# Altium footprint library PASSIVE_SMD.PCBLIB: 238 footprints (part 5 of 15)
Each footprint in its own frame and in the unit in brackets; x right, y up, seen from the top. Pads: shape width x height; smd on the part's side, far side on the other; paste and mask are expansions set on the pad; w line width, h text height; cw(c..) or ccw(c..) is an arc to the next point about the centre after c.
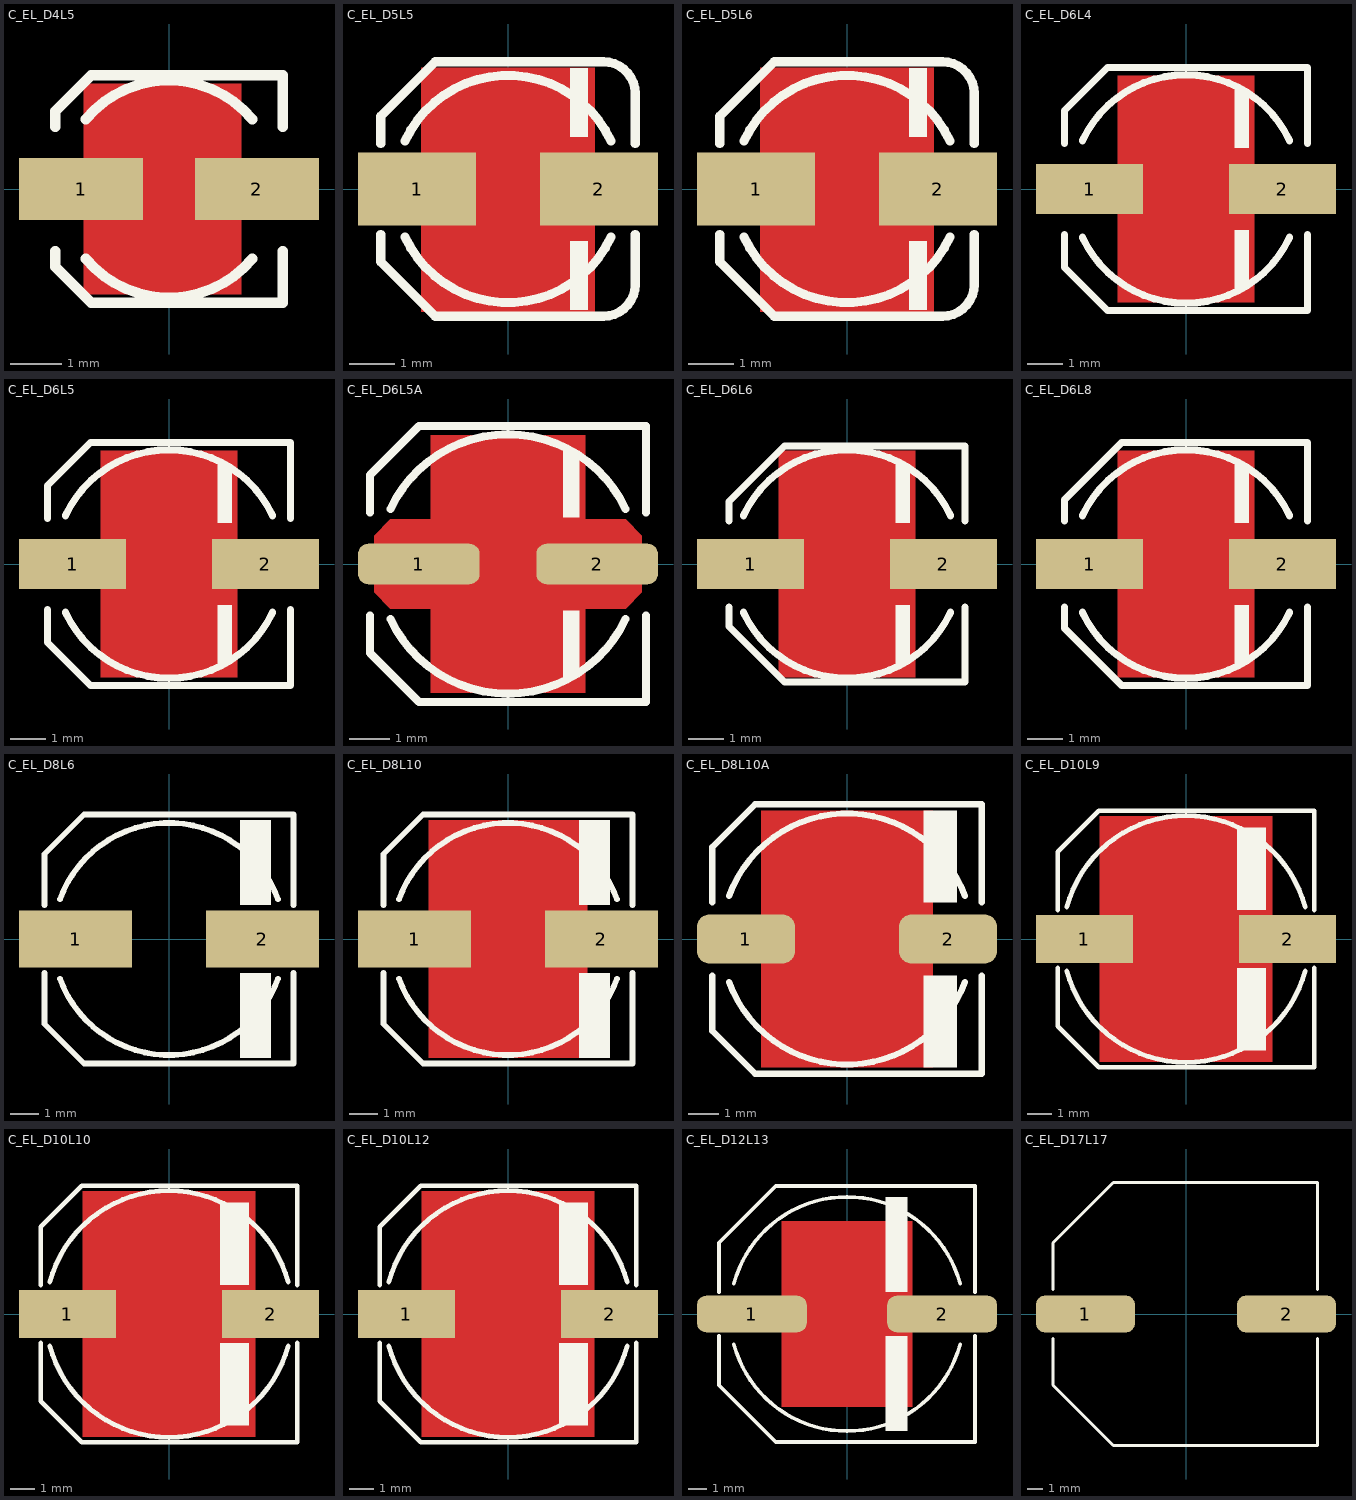
[diagram p4: the footprints below, top view; thin cyan lines are the x and y axes]

## C_EL_D4L5 [mm] "Electrolytic Cap, D: 4.3mm, Size B, 5.5mm Height"
height 5.5
pads (2):
  rect 2.4x1.2 smd paste-0.129: 1(-1.7,0) 2(1.7,0)
Top Layer:
  pour cut-out: 1.397,2.032 1.397,-2.032 -1.651,-2.032 -1.651,2.032
Top Overlay:
  lines w0.2: -2.2,-1.2 -2.2,-1.5 -1.5,-2.2 2.2,-2.2 2.2,-1.2 ; -2.2,1.2 -2.2,1.5 -1.5,2.2 2.2,2.2 2.2,1.2 ; -1.609,-1.35 ccw(c0,0) 1.609,-1.35 ; -1.609,1.35 cw(c0,0) 1.609,1.35
3D body "4x5.5x1.stp": height 5.5, standoff 0, extent -2.5,-2.15 2.5,2.15

## C_EL_D5L5 [mm] "Electrolytic Cap, D: 5.0mm, L: 5.4mm"
pads (2):
  rect 2.6x1.6 smd paste-0.161: 1(-2,0) 2(2,0)
Top Layer:
  pour cut-out: 1.905,2.667 1.905,-2.7 -1.905,-2.7 -1.905,2.667
Top Overlay:
  rectangle: 1.36,1.143 1.76,2.667
  rectangle: 1.36,-2.667 1.76,-1.143
  lines w0.2: -2.8,-1 -2.8,-1.6 -1.6,-2.8 2.1,-2.8 ccw(c2.1,-2.1) 2.8,-2.1 2.8,-1 ; -2.8,1 -2.8,1.6 -1.6,2.8 2.1,2.8 cw(c2.1,2.1) 2.8,2.1 2.8,1 ; -2.266,-1.057 ccw(c0,0) 2.266,-1.057 ; -2.266,1.057 cw(c0,0) 2.266,1.057
3D body "ELCO SMD 5.0x5.5mm 6uF8 50V size C.stp": height -0.4, standoff -5.95, extent -3,-2.648 3,2.648

## C_EL_D5L6 [mm] "Electrolytic Cap, D: 5.0mm, L: 5.8mm, Size C"
pads (2):
  rect 2.6x1.6 smd paste-0.161: 1(-2,0) 2(2,0)
Top Layer:
  pour cut-out: 1.905,2.667 1.905,-2.7 -1.905,-2.7 -1.905,2.667
Top Overlay:
  rectangle: 1.36,1.143 1.76,2.667
  rectangle: 1.36,-2.667 1.76,-1.143
  lines w0.2: -2.8,-1 -2.8,-1.6 -1.6,-2.8 2.1,-2.8 ccw(c2.1,-2.1) 2.8,-2.1 2.8,-1 ; -2.8,1 -2.8,1.6 -1.6,2.8 2.1,2.8 cw(c2.1,2.1) 2.8,2.1 2.8,1 ; -2.266,-1.057 ccw(c0,0) 2.266,-1.057 ; -2.266,1.057 cw(c0,0) 2.266,1.057
3D body "5x5.8x1.4.stp": height -0.4, standoff -6.2, extent -3,-2.65 3,2.65

## C_EL_D6L4 [mm] "Electrolytic Cap, D: 6.3mm L: 3.9mm, Size D"
height 4
pads (2):
  rect 3x1.4 smd paste-0.154: 1(-2.7,0) 2(2.7,0)
Top Layer:
  pour cut-out: 1.905,3.175 1.905,-3.175 -1.905,-3.175 -1.905,3.175
Top Overlay:
  rectangle: 1.36,1.143 1.76,2.8
  rectangle: 1.36,-2.8 1.76,-1.143
  lines w0.2: -3.4,-1.27 -3.4,-2.2 -2.2,-3.4 3.4,-3.4 3.4,-1.27 ; -3.4,1.27 -3.4,2.2 -2.2,3.4 3.4,3.4 3.4,1.27 ; -2.9,-1.352 ccw(c0,0) 2.9,-1.352 ; -2.9,1.352 cw(c0,0) 2.9,1.352
3D body "User Library-CAPSMD6_3x3_9.STEP": height 3.91, standoff 0, extent -3.586,-3.3 3.414,3.3

## C_EL_D6L5 [mm] "Electrolytic Cap, D: 6.3mm L: 5.4mm, Size D"
height 4
pads (2):
  rect 3x1.4 smd paste-0.154: 1(-2.7,0) 2(2.7,0)
Top Layer:
  pour cut-out: 1.905,3.175 1.905,-3.175 -1.905,-3.175 -1.905,3.175
Top Overlay:
  rectangle: 1.36,1.143 1.76,2.8
  rectangle: 1.36,-2.8 1.76,-1.143
  lines w0.2: -3.4,-1.27 -3.4,-2.2 -2.2,-3.4 3.4,-3.4 3.4,-1.27 ; -3.4,1.27 -3.4,2.2 -2.2,3.4 3.4,3.4 3.4,1.27 ; -2.9,-1.352 ccw(c0,0) 2.9,-1.352 ; -2.9,1.352 cw(c0,0) 2.9,1.352
3D body "User Library-ALU-D.STEP": height 5.4, standoff 0, extent -3.5,-3.3 3.5,3.3

## C_EL_D6L5A [mm] "Electrolytic Cap, D: 6.3mm L: 5.4mm, Size D"
height 4
pads (2):
  rrect50% 3x1 smd paste-0.121: 1(-2.2,0) 2(2.2,0)
Top Layer:
  region: -3.3,0.7 -3.3,-0.7 -2.9,-1.1 -1.3,-1.1 -1,-0.8 -1,0.7 -1.4,1.1 -2.9,1.1
  pour cut-out: 1.905,3.175 1.905,-3.175 -1.905,-3.175 -1.905,3.175
  region: 3.3,0.7 3.3,-0.7 2.9,-1.1 1.3,-1.1 1,-0.8 1,0.7 1.4,1.1 2.9,1.1
Top Overlay:
  rectangle: 1.36,1.143 1.76,2.8
  rectangle: 1.36,-2.8 1.76,-1.143
  lines w0.2: -3.4,-1.27 -3.4,-2.2 -2.2,-3.4 3.4,-3.4 3.4,-1.27 ; -3.4,1.27 -3.4,2.2 -2.2,3.4 3.4,3.4 3.4,1.27 ; -2.9,-1.352 ccw(c0,0) 2.9,-1.352 ; -2.9,1.352 cw(c0,0) 2.9,1.352
3D body "User Library-ALU-D.STEP": height 5.4, standoff 0, extent -3.5,-3.3 3.5,3.3

## C_EL_D6L6 [mm] "Electrolytic Cap, D: 6.3mm L: 5.8mm, Size D"
height 5.8
pads (2):
  rect 3x1.4 smd paste-0.154: 1(-2.7,0) 2(2.7,0)
Top Layer:
  pour cut-out: 1.905,3.175 1.905,-3.175 -1.905,-3.175 -1.905,3.175
Top Overlay:
  rectangle: 1.36,-2.8 1.76,-1.143
  rectangle: 1.36,1.143 1.76,2.8
  lines w0.2: -3.3,-1.2 -3.3,-1.75 -1.75,-3.3 3.3,-3.3 3.3,-1.2 ; -3.3,1.2 -3.3,1.75 -1.75,3.3 3.3,3.3 3.3,1.2 ; -2.9,-1.352 ccw(c0,0) 2.9,-1.352 ; -2.9,1.352 cw(c0,0) 2.9,1.352
3D body "6.3x5.8x2.2.stp": height 5.8, standoff 0, extent -3.65,-3.3 3.65,3.3

## C_EL_D6L8 [mm] "Electrolytic Cap, D: 6.3mm L: 7.7mm, Size D"
height 7.7
pads (2):
  rect 3x1.4 smd paste-0.154: 1(-2.7,0) 2(2.7,0)
Top Layer:
  pour cut-out: 1.905,3.175 1.905,-3.175 -1.905,-3.175 -1.905,3.175
Top Overlay:
  rectangle: 1.36,1.143 1.76,2.8
  rectangle: 1.36,-2.8 1.76,-1.143
  lines w0.2: -3.4,-1.2 -3.4,-1.8 -1.8,-3.4 3.4,-3.4 3.4,-1.2 ; -3.4,1.2 -3.4,1.8 -1.8,3.4 3.4,3.4 3.4,1.2 ; -2.9,-1.352 ccw(c0,0) 2.9,-1.352 ; -2.9,1.352 cw(c0,0) 2.9,1.352
3D body "6.3x7.7x2.2.stp": height 7.7, standoff 0, extent -3.65,-3.3 3.65,3.3

## C_EL_D8L6 [mm] "Electrolytic Cap, 8.3X6"
height 6.2
pads (2):
  rect 4x2 smd paste-0.215: 1(-3.3,0) 2(3.3,0)
Top Overlay:
  rectangle: 2.5,-4.2 3.6,-1.2
  rectangle: 2.5,1.2 3.6,4.2
  lines w0.2: -4.4,-1.2 -4.4,-3 -3,-4.4 4.4,-4.4 4.4,-1.2 ; -4.4,1.2 -4.4,3 -3,4.4 4.4,4.4 4.4,1.2 ; -3.853,-1.402 ccw(c0,0) 3.853,-1.402 ; -3.853,1.402 cw(c0,0) 3.853,1.402
3D body "CAPAE830X620N.stp": height 6.2, standoff 0, extent -4.75,-4.25 4.75,4.25

## C_EL_D8L10 [mm] "Electrolytic Cap, Size E, Size F, 8.3X10"
height 10
pads (2):
  rect 4x2 smd paste-0.215: 1(-3.3,0) 2(3.3,0)
Top Layer:
  pour cut-out: 2.794,4.191 2.794,-4.191 -2.794,-4.191 -2.794,4.191
Top Overlay:
  rectangle: 2.5,1.2 3.6,4.2
  rectangle: 2.5,-4.2 3.6,-1.2
  lines w0.2: -4.4,-1.2 -4.4,-3 -3,-4.4 4.4,-4.4 4.4,-1.2 ; -4.4,1.2 -4.4,3 -3,4.4 4.4,4.4 4.4,1.2 ; -3.853,-1.402 ccw(c0,0) 3.853,-1.402 ; -3.853,1.402 cw(c0,0) 3.853,1.402
3D body "Cap_0810.STEP": height 10.3, standoff -0.2, extent -4.902,-4.25 4.798,4.25

## C_EL_D8L10A [mm] "Electrolytic Cap, Size E, Size F, 8.3X10"
height 10
pads (2):
  rrect50% 3.2x1.6 smd paste-0.174: 1(-3.3,0) 2(3.3,0)
Top Layer:
  pour cut-out: 2.794,4.191 2.794,-4.191 -2.794,-4.191 -2.794,4.191
Top Overlay:
  rectangle: 2.5,-4.2 3.6,-1.2
  rectangle: 2.5,1.2 3.6,4.2
  lines w0.2: -4.4,-1.2 -4.4,-3 -3,-4.4 4.4,-4.4 4.4,-1.2 ; -4.4,1.2 -4.4,3 -3,4.4 4.4,4.4 4.4,1.2 ; -3.853,-1.402 ccw(c0,0) 3.853,-1.402 ; -3.853,1.402 cw(c0,0) 3.853,1.402
3D body "Cap_0810.STEP": height 10.5, standoff 0, extent -4.902,-4.25 4.798,4.25

## C_EL_D10L9 [mm] "Electrolytic Cap, 10.3mm, L: 8.7mm"
height 8.7
pads (2):
  rect 4x2 smd paste-0.215: 1(-4.2,0) 2(4.2,0)
Top Layer:
  pour cut-out: -3.556,5.08 -3.556,-5.08 3.556,-5.08 3.556,5.08
Top Overlay:
  rectangle: 2.1,-4.6 3.3,-1.2
  rectangle: 2.1,1.2 3.3,4.6
  lines w0.2: -5.3,-1.2 -5.3,-3.6 -3.6,-5.3 5.3,-5.3 5.3,-1.2 ; -5.3,1.2 -5.3,3.6 -3.6,5.3 5.3,5.3 5.3,1.2 ; -4.926,-1.32 ccw(c0,0) 4.926,-1.32 ; -4.926,1.32 cw(c0,0) 4.926,1.32
3D body "10x8.7x4.5.stp": height -0.4, standoff -9.1, extent -5.5,-5.15 5.5,5.15

## C_EL_D10L10 [mm] "Electrolytic Cap, 10.3mm, L: 10mm"
height 10
pads (2):
  rect 4x2 smd paste-0.215: 1(-4.2,0) 2(4.2,0)
Top Layer:
  pour cut-out: -3.556,5.08 -3.556,-5.08 3.556,-5.08 3.556,5.08
Top Overlay:
  rectangle: 2.1,-4.6 3.3,-1.2
  rectangle: 2.1,1.2 3.3,4.6
  lines w0.2: -5.3,-1.2 -5.3,-3.6 -3.6,-5.3 5.3,-5.3 5.3,-1.2 ; -5.3,1.2 -5.3,3.6 -3.6,5.3 5.3,5.3 5.3,1.2 ; -4.926,-1.32 ccw(c0,0) 4.926,-1.32 ; -4.926,1.32 cw(c0,0) 4.926,1.32
3D body "User Library-cap_10x10x10-1.STEP": height 10.5, standoff 0, extent -5.901,-5.25 5.899,5.25

## C_EL_D10L12 [mm] "Electrolytic Cap, 10.3mm, L: 12.4mm"
height 12.4
pads (2):
  rect 4x2 smd paste-0.215: 1(-4.2,0) 2(4.2,0)
Top Layer:
  pour cut-out: -3.556,5.08 -3.556,-5.08 3.556,-5.08 3.556,5.08
Top Overlay:
  rectangle: 2.1,1.2 3.3,4.6
  rectangle: 2.1,-4.6 3.3,-1.2
  lines w0.2: -5.3,-1.2 -5.3,-3.6 -3.6,-5.3 5.3,-5.3 5.3,-1.2 ; -5.3,1.2 -5.3,3.6 -3.6,5.3 5.3,5.3 5.3,1.2 ; -4.926,-1.32 ccw(c0,0) 4.926,-1.32 ; -4.926,1.32 cw(c0,0) 4.926,1.32
3D body "10x12.4x4.5.stp": height 12.45, standoff 0.05, extent -5.5,-5.15 5.5,5.15

## C_EL_D12L13 [mm] "Electrolytic Cap, 12.5x13mm"
height 10
pads (2):
  rrect50% 6x2 smd paste-0.241 mask+0.1: 1(-5.2,0) 2(5.2,0)
Top Layer:
  pour cut-out: -3.556,5.08 -3.556,-5.08 3.556,-5.08 3.556,5.08
Top Overlay:
  rectangle: 2.1,1.2 3.3,6.4
  rectangle: 2.1,-6.4 3.3,-1.2
  lines w0.2: -7,-1.2 -7,-3.9 -3.9,-7 7,-7 7,-1.2 ; -7,1.2 -7,3.9 -3.9,7 7,7 7,1.2 ; -6.182,-1.656 ccw(c0,0) 6.182,-1.656 ; -6.182,1.656 cw(c0,0) 6.182,1.656
3D body "User Library-ALU-H16.step": height 17, standoff 0, extent -7.75,-6.85 7.75,6.85

## C_EL_D17L17 [mm] "Electrolytic Cap, 17x17mm"
height 17
pads (2):
  rrect50% 6.4x2.4 smd paste-0.282: 1(-6.5,0) 2(6.5,0)
Top Overlay:
  lines w0.2: -8.6,-1.6 -8.6,-4.6 -4.7,-8.5 8.5,-8.5 8.5,-1.6 ; -8.6,1.6 -8.6,4.6 -4.7,8.5 8.5,8.5 8.5,1.6
3D body "CAPAE1700X1700N.stp": height 16.5, standoff 0, extent -9.2,-8.5 9.2,8.5